# Altium schematic symbol library LM34902.SchLib: 1 symbol
Pins are listed as number, name and electrical type; pins without a type are passive.

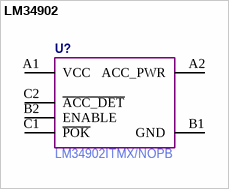
[diagram p0: symbol LM34902]

## LM34902
designator U?  Manufacturer Part Number: LM34902ITMX/NOPB  (hidden comment: *)
Power Switch ICs - Power Distribution 300mA Current Limited PWR Switch
pins: A1 VCC, A2 ACC_PWR, B1 GND, B2 ENABLE, C1 ~{POK}, C2 ~{ACC_DET}